# EAGLE library part MC9S12GC32CFAE (library HCS12)
MCS9S12GC32CFAE microcontroller Freescale HCS12 based 32 bit MCU, QFP48 package, 25MHz
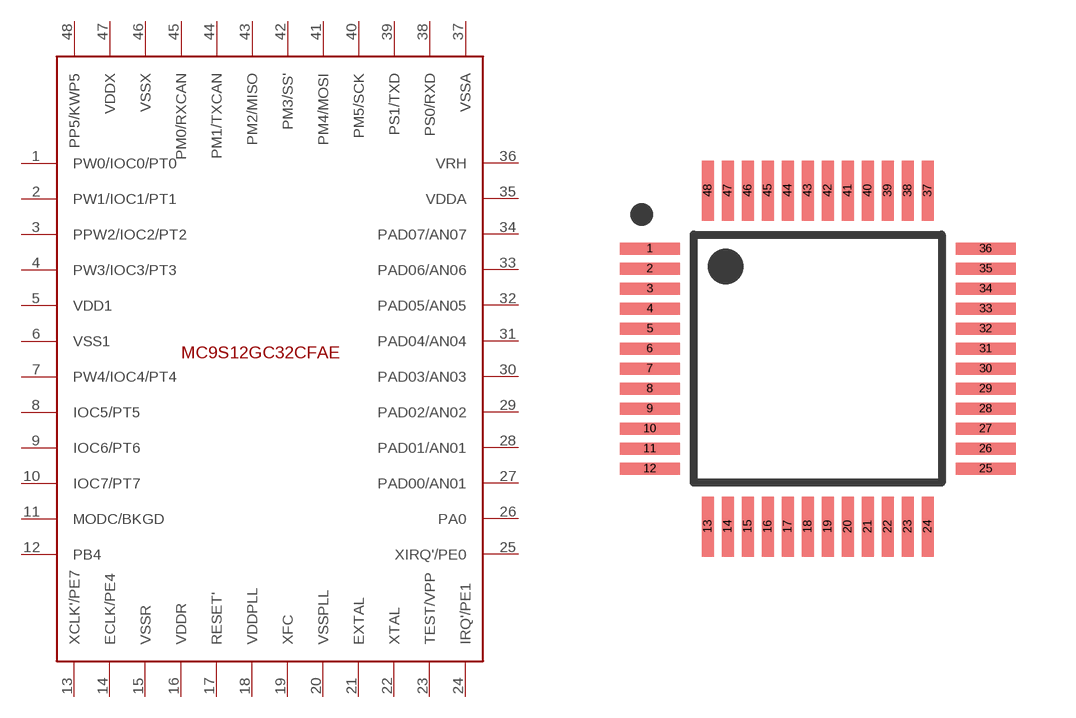
[diagram p0: symbol with the pads of QFP50P900X900X160-48N; footprint QFP50P900X900X160-48N]

Designator prefix -

## MC9S12GC32CFAE (ARROWLINK: https://www.arrow.com/en/products/mc9s12gc32cfae/nxp-semiconductors; PN: MC9S12GC32CFAE; UNITPRICE_ARROW: $7.395)  [QFP50P900X900X160-48N]
1  PW0/IOC0/PT0
2  PW1/IOC1/PT1
3  PPW2/IOC2/PT2
4  PW3/IOC3/PT3
5  VDD1
6  VSS1
7  PW4/IOC4/PT4
8  IOC5/PT5
9  IOC6/PT6
10  IOC7/PT7
11  MODC/BKGD
12  PB4
13  XCLK'/PE7
14  ECLK/PE4
15  VSSR
16  VDDR
17  RESET'
18  VDDPLL
19  XFC
20  VSSPLL
21  EXTAL
22  XTAL
23  TEST/VPP
24  IRQ'/PE1
25  XIRQ'/PE0
26  PA0
27  PAD00/AN01
28  PAD01/AN01
29  PAD02/AN02
30  PAD03/AN03
31  PAD04/AN04
32  PAD05/AN05
33  PAD06/AN06
34  PAD07/AN07
35  VDDA
36  VRH
37  VSSA
38  PS0/RXD
39  PS1/TXD
40  PM5/SCK
41  PM4/MOSI
42  PM3/SS'
43  PM2/MISO
44  PM1/TXCAN
45  PM0/RXCAN
46  VSSX
47  VDDX
48  PP5/KWP5

## Footprint QFP50P900X900X160-48N (pad centres in mm)
smd 1.5 x 0.3: 1 -4.2,2.75; 2 -4.2,2.25; 3 -4.2,1.75; 4 -4.2,1.25; 5 -4.2,0.75; 6 -4.2,0.25; 7 -4.2,-0.25; 8 -4.2,-0.75; 9 -4.2,-1.25; 10 -4.2,-1.75; 11 -4.2,-2.25; 12 -4.2,-2.75; 25 4.2,-2.75; 26 4.2,-2.25; 27 4.2,-1.75; 28 4.2,-1.25; 29 4.2,-0.75; 30 4.2,-0.25; 31 4.2,0.25; 32 4.2,0.75; 33 4.2,1.25; 34 4.2,1.75; 35 4.2,2.25; 36 4.2,2.75
smd 0.3 x 1.5: 13 -2.75,-4.2; 14 -2.25,-4.2; 15 -1.75,-4.2; 16 -1.25,-4.2; 17 -0.75,-4.2; 18 -0.25,-4.2; 19 0.25,-4.2; 20 0.75,-4.2; 21 1.25,-4.2; 22 1.75,-4.2; 23 2.25,-4.2; 24 2.75,-4.2; 37 2.75,4.2; 38 2.25,4.2; 39 1.75,4.2; 40 1.25,4.2; 41 0.75,4.2; 42 0.25,4.2; 43 -0.25,4.2; 44 -0.75,4.2; 45 -1.25,4.2; 46 -1.75,4.2; 47 -2.25,4.2; 48 -2.75,4.2